# Altium footprint library prj-pcblib.PcbLib: 17 footprints (part 2 of 2)
Each footprint in its own frame and in the unit in brackets; x right, y up, seen from the top. Pads: shape width x height; smd on the part's side, far side on the other; paste and mask are expansions set on the pad; w line width, h text height; cw(c..) or ccw(c..) is an arc to the next point about the centre after c.
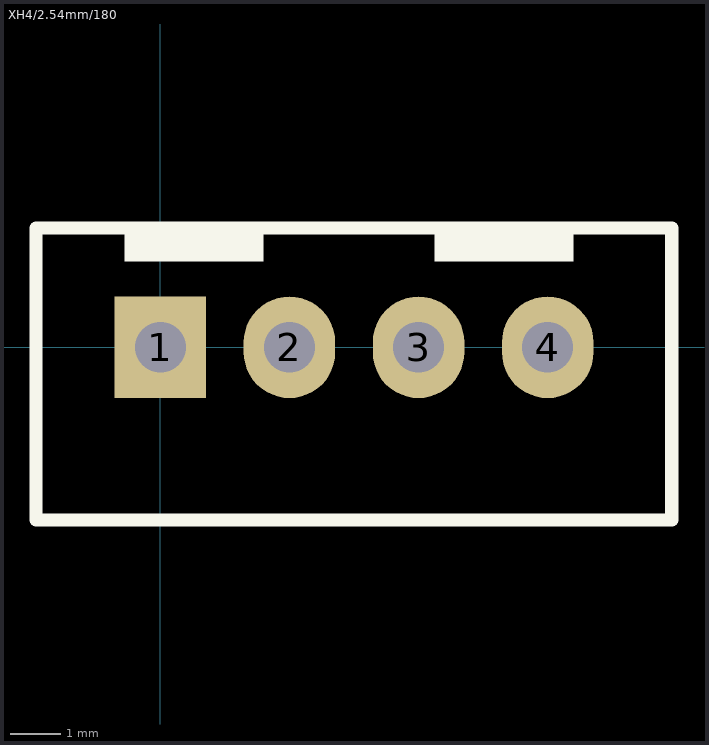
[diagram p1: the footprint, top view; thin cyan lines are the x and y axes]

## XH4/2.54mm/180 [mm]
pads (4):
  rect 1.8x2 hole 1: 1(0,0)
  oval 1.8x2 hole 1: 2(2.54,0) 3(5.08,0) 4(7.62,0)
Top Overlay:
  rectangle: -0.704,1.692 2.032,2.342
  rectangle: 5.392,1.692 8.128,2.342
  lines w0.24: -2.45,0 -2.45,2.35
  lines w0.254: -2.45,0 -2.45,-3.4 ; 10.058,-3.4 10.058,2.325 ; -2.45,-3.4 -2.45,2.35 ; -2.45,-3.4 10.07,-3.4 ; -2.45,2.35 10.07,2.35 ; -2.45,2.35 -2.45,2.35 ; 10.07,-3.4 10.07,0 10.07,2.35 ; 10.07,-3.4 10.07,2.35
3D body "User Library-B4B-XH-A.STEP": height 7, standoff -3.4, extent -2.39,-3.302 10.01,2.448